# EAGLE library part 428547320916 (library 428427520910_Eagle_WS-ROTU_rev19b)
7x7 mm washable THT arrow type <http://katalog.we-online.de/media/images/v2/Family_WS-ROtV_THT_Rotary_Switch_428547320910.jpg> Details see: http://katalog.we-online.de/en/em/ROTV_7X7_WASHABLE_THT_ARROW_TYPE 2015 (C) Würth Elektronik
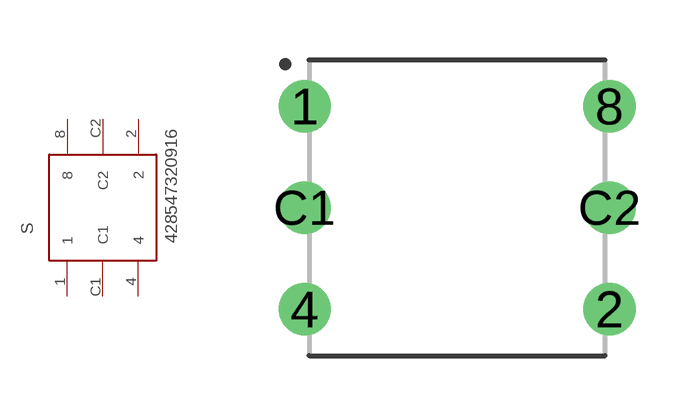
[diagram p73: symbol with the pads of 428547320916; footprint 428547320916]

Designator prefix S

## 428547320916  [428547320916]
1  1  pas
2  2  pas
4  4  pas
8  8  pas
C1  C1  pas
C2  C2  pas

## Footprint 428547320916 (pad centres in mm)
WS-RAT, 7x7 mm washable THT Rotary Switch, 6 pins, 16 positions, round Arrow type, grey actuator, real code
drill 0.8: 1 -3.81,2.54; 2 3.81,-2.54; 4 -3.81,-2.54; 8 3.81,2.54; C1 -3.81,0; C2 3.81,0